# Altium schematic symbol library OL_IR.Schlib: 1 symbol
Pins are listed as number, name and electrical type; pins without a type are passive.

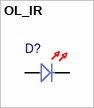
[diagram p0: symbol OL_IR]

## OL_IR
designator D?  (value not drawn)
LED_RED
pins: 1 C, 2 A